# EAGLE library part MCMURDO-16 (library Educ-8)
McMurdo connector, 16 pins
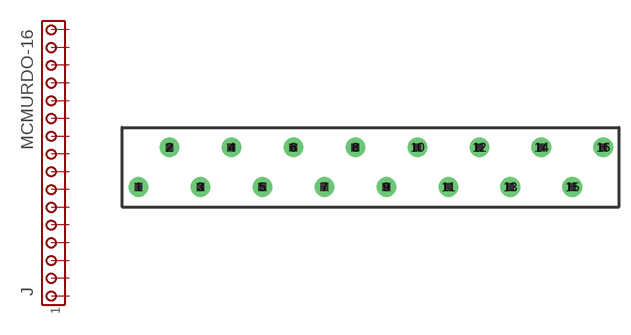
[diagram p1: symbol with the pads of 133-12-17; footprint 133-12-17]

Designator prefix J

## MCMURDO-16  [133-12-17]
1  1  pas
2  2  pas
3  3  pas
4  4  pas
5  5  pas
6  6  pas
7  7  pas
8  8  pas
9  9  pas
10  10  pas
11  11  pas
12  12  pas
13  13  pas
14  14  pas
15  15  pas
16  16  pas

## Footprint 133-12-17 (pad centres in mm)
McMurdo connector, 16 pins
drill 1.676: 1 -29.718,-2.54; 2 -25.756,2.54; 3 -21.793,-2.54; 4 -17.831,2.54; 5 -13.868,-2.54; 6 -9.906,2.54; 7 -5.944,-2.54; 8 -1.981,2.54; 9 1.981,-2.54; 10 5.944,2.54; 11 9.906,-2.54; 12 13.868,2.54; 13 17.831,-2.54; 14 21.793,2.54; 15 25.756,-2.54; 16 29.718,2.54